# Altium footprint library MOTORDEMO.PcbLib: 12 footprints
Each footprint in its own frame and in the unit in brackets; x right, y up, seen from the top. Pads: shape width x height; smd on the part's side, far side on the other; paste and mask are expansions set on the pad; w line width, h text height; cw(c..) or ccw(c..) is an arc to the next point about the centre after c.
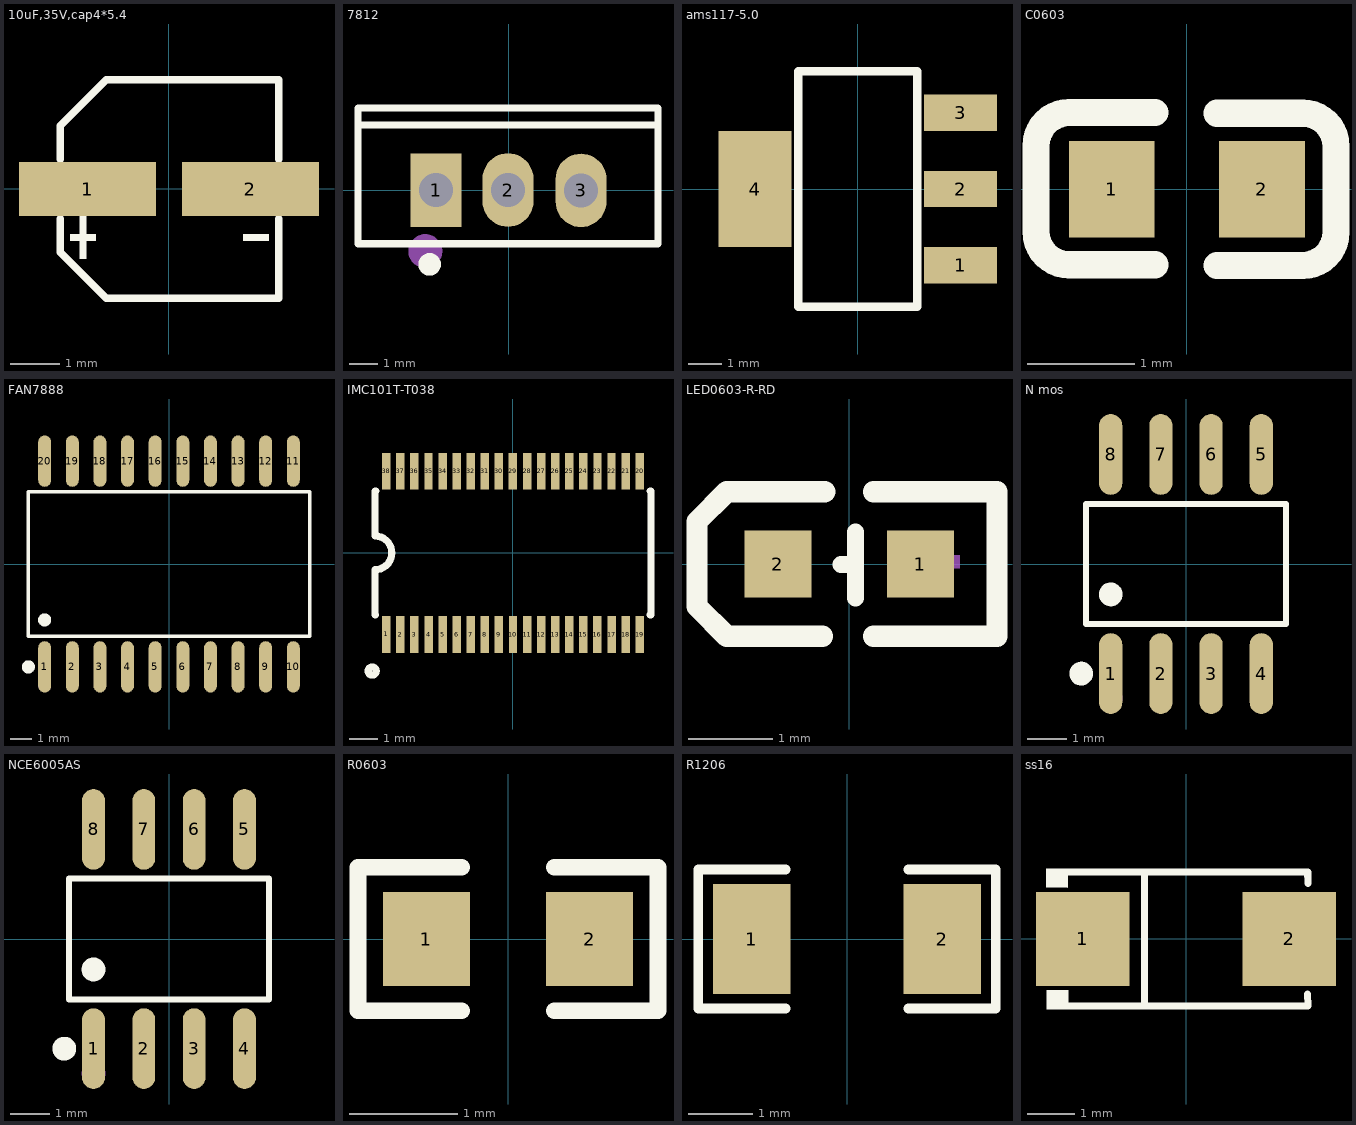
[diagram p0: the footprints below, top view; thin cyan lines are the x and y axes]

## 10uF,35V,cap4*5.4 [mm] "CAP-SMD_BD4.0-L4.3-W4.3-FD"
pads (2):
  rect 2.8x1.1 smd: 1(-1.66,0) 2(1.66,0)
Top Overlay:
  region: -1.818,-0.559 -1.818,-1.419 -1.689,-1.419 -1.689,-0.559
  region: -2.011,-0.925 -2.011,-1.054 -1.495,-1.054 -1.495,-0.925
  region: 2.031,-0.925 2.031,-1.054 1.515,-1.054 1.515,-0.925
  lines w0.152: -2.217,-0.607 -2.217,-1.29 -1.28,-2.226 2.236,-2.226 2.236,-0.607 ; -2.217,0.607 -2.217,1.29 -1.28,2.226 2.236,2.226 2.236,0.607
Mechanical 15:
  region: -1.818,0.43 -1.818,-0.43 -1.689,-0.43 -1.689,0.43
  region: -2.011,0.064 -2.011,-0.065 -1.495,-0.065 -1.495,0.064
  region: 2.031,0.064 2.031,-0.065 1.515,-0.065 1.515,0.064

## 7812 [mm] "TO-220-3_L10.0-W4.5-P2.54-L"
pads (3):
  rect 1.8x2.6 hole 1.2: 1(-2.56,0.005)
  oval 1.8x2.6 hole 1.2: 2(-0.02,0.005) 3(2.56,-0.005)
Top Overlay:
  lines w0.254: -5.32,2.305 5.28,2.305 ; -5.321,-1.894 -5.321,2.899 -5.321,2.904 5.281,2.904 5.281,-1.894 -5.321,-1.894
  lines w0.4: -2.79,-2.42 ccw(c-2.789,-2.62) -2.787,-2.42
Mechanical 15:
  circle w0.6: c-2.941,-2.154 r0.3

## ams117-5.0 [mm] "SOT-223_L6.7-W3.5-P2.30-BR"
pads (4):
  rect 2.2x1.1 smd: 1(3.099,-2.3) 2(3.099,0) 3(3.099,2.3)
  rect 2.2x3.5 smd: 4(-3.099,0)
Top Overlay:
  lines w0.254: -1.8,-3.55 -1.8,3.55 1.8,3.55 1.8,-3.55 -1.8,-3.55
Mechanical 15:
  circle w0.254: c3.683,-2.286 r0.127

## C0603 [mm] "C15725"
pads (2):
  rect 0.8x0.9 smd: 1(-0.7,0) 2(0.7,0)
Top Overlay:
  lines w0.254: -0.296,-0.704 -1.096,-0.704 cw(c-1.096,-0.394) -1.406,-0.394 -1.405,0.406 cw(c-1.096,0.406) -1.096,0.715 -0.296,0.715 ; 0.28,-0.71 1.08,-0.71 ccw(c1.08,-0.4) 1.39,-0.4 1.39,0.4 ccw(c1.08,0.4) 1.08,0.71 0.28,0.71

## FAN7888 [mm] "SOIC-20_L13.0-W7.6-P1.27-LS10.3-BL"
pads (20):
  oval 0.595x2.36 smd: 1(-5.715,-4.73) 2(-4.445,-4.73) 3(-3.175,-4.73) 4(-1.905,-4.73) 5(-0.635,-4.73) 6(0.635,-4.73) 7(1.905,-4.73) 8(3.175,-4.73) 9(4.445,-4.73) 10(5.715,-4.73) 11(5.715,4.73) 12(4.445,4.73) 13(3.175,4.73) 14(1.905,4.73) 15(0.635,4.73) 16(-0.635,4.73) 17(-1.905,4.73) 18(-3.175,4.73) 19(-4.445,4.73) 20(-5.715,4.73)
Top Overlay:
  circle w0.3: c-6.465,-4.73 r0.15
  circle w0.3: c-5.715,-2.569 r0.15
  lines w0.152: -6.476,-3.321 6.476,-3.321 6.476,3.321 -6.476,3.321 -6.476,-3.321
Mechanical 15:
  circle w0.3: c-5.715,-5.563 r0.15

## IMC101T-T038 [mm] "TSSOP-38_L9.7-W4.4-P0.50-LS6.4-BL"
pads (38):
  rect 0.3x1.3 smd: 1(-4.501,-2.899) 2(-3.999,-2.901) 3(-3.498,-2.901) 4(-2.999,-2.901) 5(-2.499,-2.901) 6(-1.999,-2.901) 7(-1.499,-2.901) 8(-0.999,-2.901) 9(-0.499,-2.901) 10(0.001,-2.901) 11(0.501,-2.901) 12(1.001,-2.901) 13(1.501,-2.901) 14(2.001,-2.901) 15(2.501,-2.901) 16(3.001,-2.901) 17(3.501,-2.901) 18(4.001,-2.901) 19(4.501,-2.901) 20(4.5,2.899) 21(4.001,2.9) 22(3.501,2.899) 23(3.002,2.899) 24(2.499,2.901) 25(2,2.9) 26(1.5,2.9) 27(1,2.9) 28(0.5,2.9) 29(0,2.9) 30(-0.5,2.9) 31(-1,2.9) 32(-1.5,2.9) 33(-2,2.9) 34(-2.5,2.9) 35(-3,2.9) 36(-3.5,2.9) 37(-4,2.9) 38(-4.5,2.9)
Top Overlay:
  circle w0.254: c-5,-4.2 r0.143
  lines w0.254: -4.877,-2.2 -4.9,-2.2 -4.9,-0.6 ccw(c-4.904,0) -4.9,0.6 -4.9,2.2 -4.876,2.2 ; 4.877,-2.2 4.9,-2.2 4.9,2.2 4.876,2.2

## LED0603-R-RD [mm] "C181863"
pads (2):
  rect 0.8x0.8 smd: 1(0.851,0) 2(-0.851,0)
Top Overlay:
  lines w0.203: -0.099,-0.008 0.076,-0.008 ; 0.076,-0.406 0.076,0.381
  lines w0.254: -0.318,-0.864 -1.46,-0.864 -1.816,-0.508 -1.816,0.508 -1.46,0.864 -0.292,0.864 ; 0.292,-0.864 1.765,-0.864 1.765,0.864 0.292,0.864
Mechanical 15:
  region: -1.193,0.05 -0.533,0.05 -0.533,-0.103 -1.193,-0.103
  region: 0.936,-0.275 0.936,0.385 1.088,0.385 1.088,-0.275
  region: 0.66,0.102 1.321,0.102 1.321,-0.051 0.66,-0.051

## N mos [mm] "SOIC-8_L4.9-W3.9-P1.27-LS6.0-BL       C211426"
pads (8):
  oval 0.588x2.045 smd: 1(-1.905,-2.773) 2(-0.635,-2.773) 3(0.635,-2.773) 4(1.905,-2.773) 5(1.905,2.773) 6(0.635,2.773) 7(-0.635,2.773) 8(-1.905,2.773)
Top Overlay:
  circle w0.3: c-1.905,-0.769 r0.15
  circle w0.3: c-2.652,-2.772 r0.15
  lines w0.152: -2.526,-1.521 -2.526,1.521 2.526,1.521 2.526,-1.521 -2.526,-1.521
Mechanical 15:
  circle w0.3: c-1.905,-3.4 r0.15

## NCE6005AS [mm] "SOP-8_L5.0-W4.0-P1.27-LS6.0-BL"
pads (8):
  oval 0.574x2.036 smd: 1(-1.905,-2.768) 2(-0.635,-2.768) 3(0.635,-2.768) 4(1.905,-2.768) 5(1.905,2.768) 6(0.635,2.768) 7(-0.635,2.768) 8(-1.905,2.768)
Top Overlay:
  circle w0.3: c-2.644,-2.768 r0.15
  circle w0.3: c-1.905,-0.769 r0.15
  lines w0.152: -2.526,-1.521 2.526,-1.521 2.526,1.521 -2.526,1.521 -2.526,-1.521
Mechanical 15:
  circle w0.3: c-1.905,-3.398 r0.15

## R0603 [mm] "C327832"
pads (2):
  rect 0.806x0.864 smd: 1(-0.753,0) 2(0.753,0)
Top Overlay:
  lines w0.152: -0.426,-0.661 -1.385,-0.661 -1.385,0.661 -0.426,0.661 ; 0.426,-0.661 1.385,-0.661 1.385,0.661 0.426,0.661
Top Paste:
  region: -0.355,0.4 -0.355,0.172 -0.735,0.172 -0.735,-0.158 -0.355,-0.158 -0.355,-0.4 -0.405,-0.45 -1.195,-0.45 -1.245,-0.4 -1.245,0.4 -1.195,0.45 -0.405,0.45
  region: 1.195,0.45 0.395,0.45 0.345,0.4 0.345,0.172 0.715,0.172 0.715,-0.158 0.345,-0.158 0.345,-0.4 0.395,-0.45 1.195,-0.45 1.245,-0.4 1.245,0.4

## R1206 [mm]
pads (2):
  rect 1.208x1.701 smd: 1(-1.479,0) 2(1.479,0)
Top Overlay:
  lines w0.152: -0.951,-1.079 -2.311,-1.079 -2.311,1.079 -0.951,1.079 ; 0.951,-1.079 2.311,-1.079 2.311,1.079 0.951,1.079
Top Paste:
  region: -0.875,-0.75 -0.875,-0.389 -0.975,-0.289 -1.186,-0.289 -1.286,-0.189 -1.286,0.189 -1.186,0.289 -0.975,0.289 -0.875,0.389 -0.875,0.75 -0.975,0.85 -1.983,0.85 -2.083,0.75 -2.083,-0.75 -1.983,-0.85 -0.975,-0.85
  region: 0.875,-0.75 0.875,-0.389 0.975,-0.289 1.186,-0.289 1.286,-0.189 1.286,0.189 1.186,0.289 0.975,0.289 0.875,0.389 0.875,0.75 0.975,0.85 1.983,0.85 2.083,0.75 2.083,-0.75 1.983,-0.85 0.975,-0.85

## ss16 [mm] "SMA_L4.3-W2.6-LS5.2-RD"
pads (2):
  rect 2x2 smd: 1(-2.2,0) 2(2.2,0)
Top Overlay:
  region: -2.52,1.502 -2.521,1.096 -2.981,1.1 -2.977,1.502
  region: -2.512,-1.096 -2.513,-1.503 -2.973,-1.498 -2.969,-1.096
  lines w0.152: -2.596,-1.426 2.596,-1.426 ; -2.596,1.426 2.596,1.426 2.603,1.187 ; -0.884,-1.426 -0.884,1.426 ; 2.593,-1.176 2.6,-1.415
Mechanical 15:
  region: -2.317,-0.101 -2.317,0.101 -1.507,0.101 -1.507,-0.101
  region: 2.317,-0.101 2.317,0.101 1.507,0.101 1.507,-0.101
  region: 2.014,-0.675 2.014,0.675 1.811,0.675 1.811,-0.675